# EAGLE library part 112I-TXAR-R (library Custom_SD)
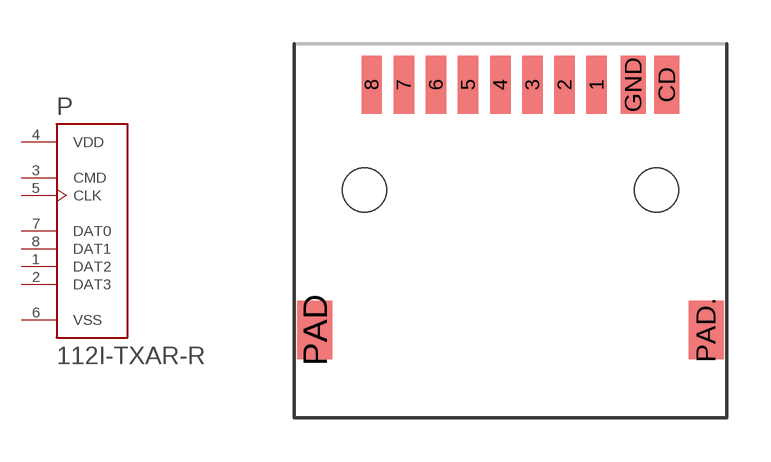
[diagram p0: symbol with the pads of 112I-TXAR-R; footprint 112I-TXAR-R]

Designator prefix P

## 112I-TXAR-R (AVAILABILITY: Good; DESCRIPTION: Conn Micro SD Card HDR 8 POS 1.1mm Solder RA SMD Embossed T/R 0.5A; LIEFERANT: Conrad Elektronik; LIEFERANTEN_ART_NR: 1308329 - 05; MF: ATTEND; MP: 112I-TXAR-R; PACKAGE: None; PRICE: 1.11 USD)  [112I-TXAR-R]
1  DAT2
2  DAT3
3  CMD  in
4  VDD  pwr
5  CLK  in
6  VSS  pas
7  DAT0
8  DAT1

## Footprint 112I-TXAR-R (pad centres in mm)
smd 0.7 x 2: 1 2.95,3.6; 2 1.85,3.6; 3 0.75,3.6; 4 -0.35,3.6; 5 -1.45,3.6; 6 -2.55,3.6; 7 -3.65,3.6; 8 -4.75,3.6
smd 0.85 x 2: CD 5.35,3.6; GND 4.2,3.6
smd 1.2 x 2: PAD -6.7,-4.8; PAD. 6.7,-4.8
hole 1.5 at -5,0
hole 1.5 at 5,0